# Altium footprint library Transistor.PcbLib: 22 footprints (part 1 of 2)
Each footprint in its own frame and in the unit in brackets; x right, y up, seen from the top. Pads: shape width x height; smd on the part's side, far side on the other; paste and mask are expansions set on the pad; w line width, h text height; cw(c..) or ccw(c..) is an arc to the next point about the centre after c.
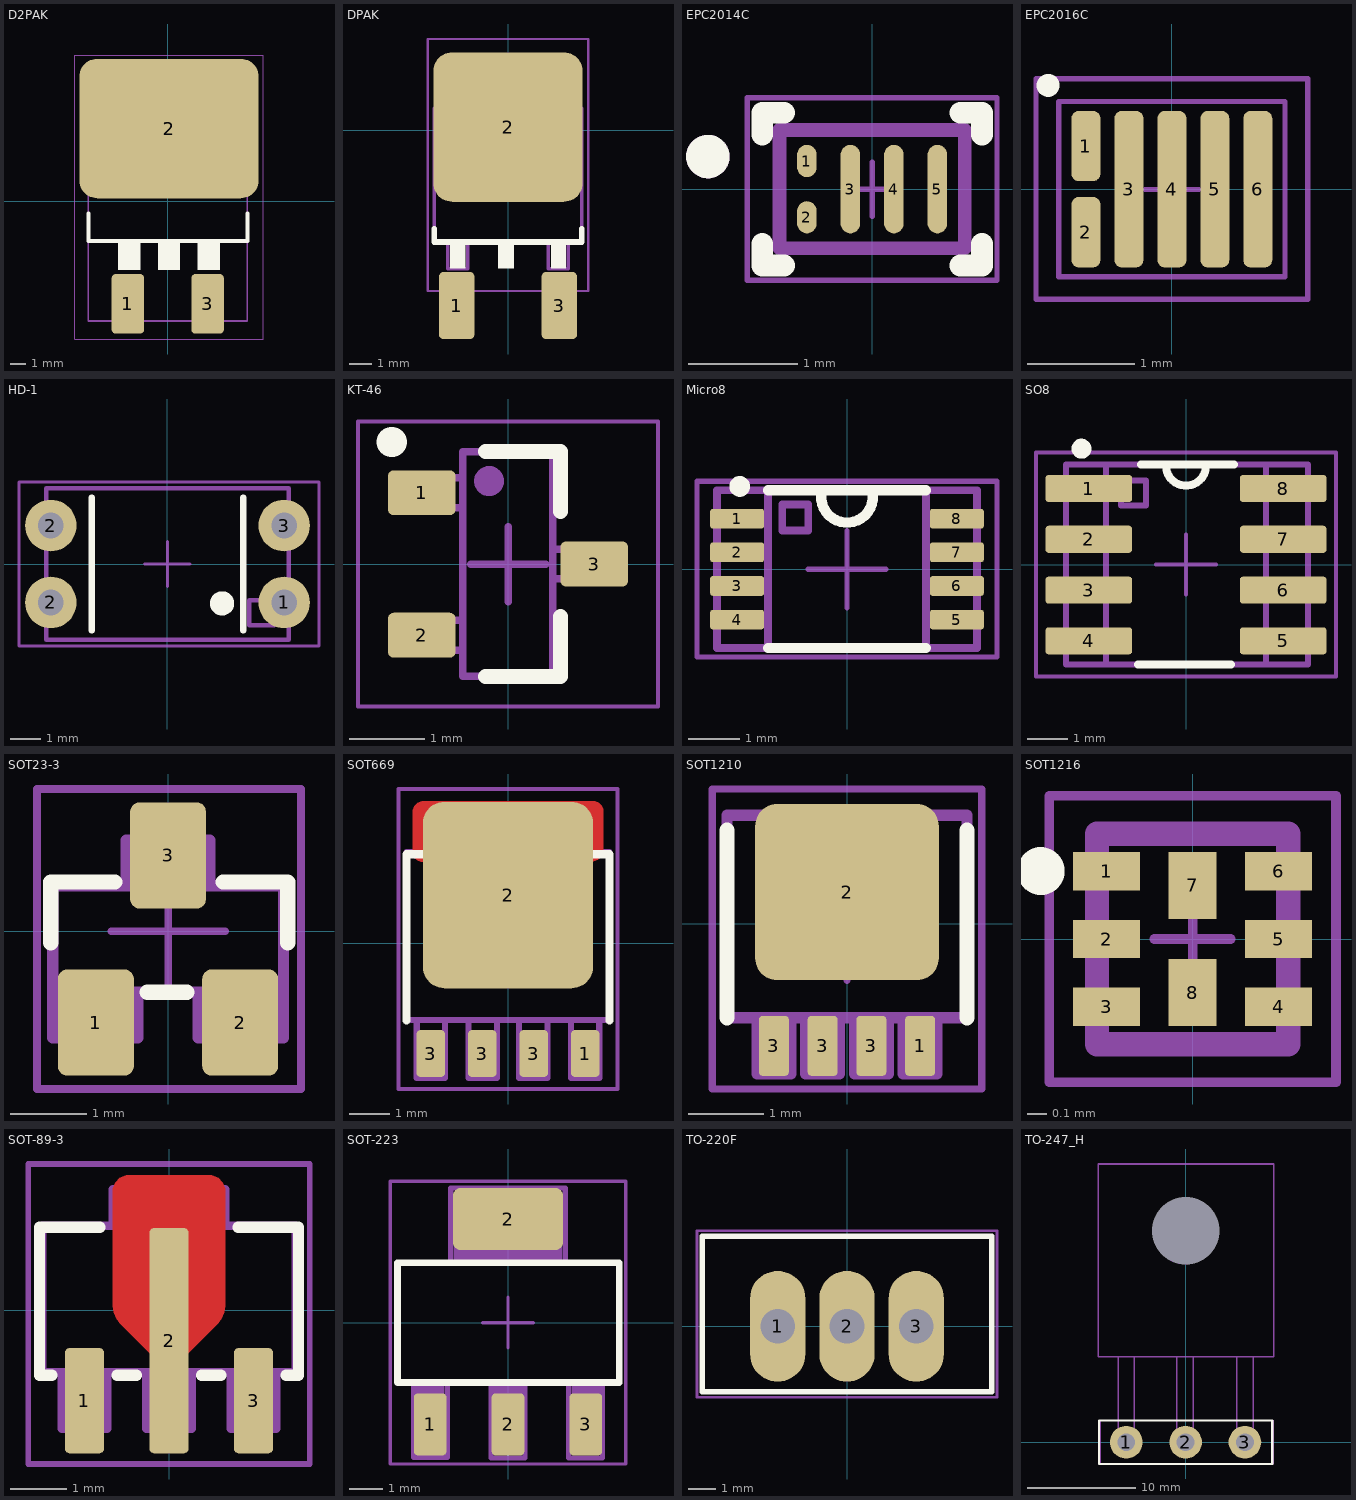
[diagram p0: the footprints below, top view; thin cyan lines are the x and y axes]

## D2PAK [mm]
pads (3):
  rrect25% 2.08x3.81 smd: 1(-2.54,-6.542) 3(2.54,-6.542)
  rrect25% 11.43x8.89 smd: 2(0.08,4.638)
Top Overlay:
  rectangle: -3.171,-4.382 -1.749,-2.541
  rectangle: 1.909,-4.382 3.331,-2.541
  rectangle: -0.631,-4.382 0.791,-2.541
  lines w0.254: -5.051,-0.763 -5.051,-2.541 5.08,-2.541 5.08,-0.763
Mechanical 13:
  lines w0.1: -5.08,-7.632 5.08,-7.632 5.08,7.632 -5.08,7.632 -5.08,-7.632
Mechanical 15:
  lines w0.05: -0.67,3.618 0.83,3.618 ; 0.08,2.868 0.08,4.368 ; -5.92,-8.782 6.08,-8.782 6.08,9.318 -5.92,9.318 -5.92,-8.782
3D body "User Library-DPAK.step": height 5.03, standoff 0.02, extent -5.08,-7.632 5.08,7.632

## DPAK [mm]
pads (3):
  rrect25% 1.6x3 smd: 1(-2.3,-7.85) 3(2.3,-7.85)
  rrect25% 6.7x6.7 smd: 2(0,0.152)
Top Overlay:
  rectangle: -0.439,-6.2 0.261,-5
  rectangle: 1.921,-6.2 2.6,-5
  rectangle: -2.6,-6.2 -1.9,-5
  lines w0.254: -3.302,-4.405 -3.302,-5 3.302,-5 3.302,-4.405
Mechanical 7:
  lines w0.15: -2.7,1 -2.7,1.5 -1.9,2.3 1.9,2.3 2.7,1.5 2.7,1 -3.3,1 ; -3.3,1 -3.3,1 ; 3.3,1 3.3,1
  lines w0.152: -3.302,-3.505 -3.302,1 ; 3.302,-3.505 3.302,1 ; -3.302,1 -3.302,-5 3.302,-5 3.302,1 ; -3.302,1 3.302,1 ; -2.692,-6.2 -1.803,-6.2 ; -2.692,-6.2 -2.692,-5 ; -2.692,-6.2 -2.692,-5 ; -2.692,-5 -1.803,-5 ; -1.803,-6.2 -1.803,-5 ; -1.803,-6.2 -1.803,-5 ; 1.803,-6.2 2.692,-6.2 ; 1.803,-6.2 1.801,-5 1.803,-6.2 ; 2.692,-6.2 2.692,-5 2.692,-6.2
Mechanical 9:
  text ".Designator" at -4.4,5 h3
Mechanical 10:
  text ".Comment" at -3.2,-8.8 h2
Mechanical 15:
  lines w0.1: -0.75,0 0.75,0 ; 0,-0.75 0,0.75 ; -3.6,-7.2 -3.6,4.1 3.6,4.1 3.6,-7.2 -3.6,-7.2
3D body "User Library-D-PAK.step": height 2.3, standoff 0, extent -3.246,-7.55 3.247,1.95

## EPC2014C [mm]
pads (5):
  oval 0.18x0.296 smd paste-1 mask+0: 1(-0.6,0.259) 2(-0.6,-0.259)
  oval 0.18x0.814 smd paste-1 mask+0: 3(-0.2,0) 4(0.2,0) 5(0.6,0)
Top Overlay:
  circle w0.2: c-1.51,0.3 r0.1
  lines w0.2: -1.01,-0.502 -1.01,-0.702 -0.81,-0.702 ; -1.01,0.502 -1.01,0.702 -0.81,0.702 ; 0.81,-0.702 1.01,-0.702 1.01,-0.502 ; 0.81,0.702 1.01,0.702 1.01,0.502
Top Paste:
  drawing of 5 lines, arcs and shapes, not listed
Top Solder:
  drawing of 5 lines, arcs and shapes, not listed
Mechanical 9:
  text ".Designator" at -5.05,1.7 h3.5
Mechanical 10:
  text ".Comment" at -2.775,-2.15 h2
Mechanical 13:
  circle w0.2: c-1.51,0.3 r0.1
  lines w0.127: -0.851,-0.543 -0.851,0.543 0.851,0.543 0.851,-0.543 -0.851,-0.543
Mechanical 15:
  lines w0.05: -0.25,0 0.25,0 ; 0,-0.25 0,0.25 ; -1.148,-0.838 -1.148,0.842 1.148,0.842 1.148,-0.838 -1.148,-0.838
3D body "EPC2014C--3DModel-STEP-56544.STEP": height 0.81, standoff 0, extent -0.858,-0.55 0.844,0.537

## EPC2016C [mm]
pads (12):
  rrect50% 0.27x0.655 smd paste-0.048 mask-0.275: 1(-0.8,0.404) 2(-0.8,-0.398)
  rrect50% 0.27x1.457 smd paste-0.048 mask-0.275: 3(-0.4,0.003) 4(0,0.002) 5(0.4,0.002) 6(0.8,0.002)
  oval 0.15x0.56 on Top Solder: ""(-0.8,-0.398) ""(-0.8,0.404)
  oval 0.15x1.362 on Top Solder: ""(-0.4,0.003) ""(0,0.003) ""(0.4,0.003) ""(0.8,0.003)
Top Overlay:
  circle w0.2: c-1.153,0.969 r0.006
Mechanical 9:
  text ".Designator" at -5.2,1.675 h3.5
Mechanical 10:
  text ".Comment" at -2.875,-2.05 h2
Mechanical 13:
  lines w0.05: -1.053,-0.813 1.053,-0.813 1.053,0.819 -1.053,0.819 -1.053,-0.813
Mechanical 15:
  lines w0.05: -0.25,0 0.25,0 ; 0,-0.25 0,0.25 ; -1.265,-1.022 1.264,-1.022 1.264,1.03 -1.265,1.03 -1.265,-1.022
3D body: height 0.81, standoff 0.13, extent -1.053,-0.813 1.05,0.819
3D body: height 0.2, standoff 0, extent -0.096,-0.687 0.098,-0.49
3D body: height 0.2, standoff 0, extent -0.097,0.496 0.097,0.693
3D body: height 0.2, standoff 0, extent -0.099,-0.588 0.1,0.594
3D body: height 0.2, standoff 0, extent -0.896,0.115 -0.702,0.312
3D body: height 0.2, standoff 0, extent -0.897,0.495 -0.703,0.692
3D body: height 0.2, standoff 0, extent -0.899,0.213 -0.7,0.593
3D body: height 0.82, standoff 0.81, extent -0.998,0.453 -0.7,0.753
3D body: height 0.2, standoff 0, extent -0.899,-0.589 -0.7,-0.209
3D body: height 0.2, standoff 0, extent -0.897,-0.307 -0.703,-0.11
3D body: height 0.2, standoff 0, extent -0.896,-0.687 -0.702,-0.49
3D body: height 0.2, standoff 0, extent -0.499,-0.587 -0.3,0.595
3D body: height 0.2, standoff 0, extent -0.497,0.497 -0.303,0.694
3D body: height 0.2, standoff 0, extent -0.496,-0.686 -0.302,-0.489
3D body: height 0.2, standoff 0, extent 0.301,-0.588 0.5,0.594
3D body: height 0.2, standoff 0, extent 0.303,0.496 0.497,0.693
3D body: height 0.2, standoff 0, extent 0.304,-0.687 0.498,-0.49
3D body: height 0.2, standoff 0, extent 0.701,-0.587 0.9,0.595
3D body: height 0.2, standoff 0, extent 0.703,0.497 0.897,0.694
3D body: height 0.2, standoff 0, extent 0.704,-0.686 0.898,-0.489

## HD-1 [mm]
pads (4):
  round 1.7 hole 0.85: 1(3.85,-1.27) 2(-3.85,-1.27) 2(-3.85,1.27) 3(3.85,1.27)
Top Overlay:
  circle w0.4: c1.8,-1.3 r0.2
  lines w0.2: -2.5,-2.2 -2.5,2.2 ; 2.5,-2.2 2.5,2.2
Mechanical 7:
  lines w0.15: -4,-2.5 4,-2.5 4,2.5 -4,2.5 -4,-2.5 ; 2.7,-2.025 2.7,-1.2 3.525,-1.2 3.525,-2.025 2.7,-2.025
Mechanical 9:
  text ".Designator" at -4.9,3.6 h3.5
Mechanical 10:
  text ".Comment" at -2.8,-4.2 h2
Mechanical 15:
  lines w0.1: -0.75,0 0.75,0 ; 0,-0.75 0,0.75 ; -4.9,-2.7 -4.9,2.7 5,2.7 5,-2.7 -4.9,-2.7
3D body "HD-1.STEP": height 6.7, standoff -1.91, extent -4.015,-2.5 4.015,2.5

## KT-46 [mm] "SOT23, 3-Leads, Body 2,90x2,30mm, Pitch 0,95mm, IPC Medium Density"
height 1.1
pads (3):
  rrect25% 0.9x0.6 smd paste-0.025 mask+0.1: 1(-1.15,0.95) 2(-1.15,-0.95) 3(1.15,0)
Top Overlay:
  lines w0.2: -0.3,-1.5 0.7,-1.5 0.7,-0.7 ; -0.3,1.5 0.7,1.5 0.7,0.7
  lines w0.4: -1.555,1.624 -1.55,1.625
Mechanical 6:
  text ".Comment" at -1.474,-2.189 h1.2
Mechanical 9:
  text ".Designator" at -2.306,1.806 h1.5
Mechanical 11:
  circle w0.2: c-0.252,1.106 r0.1
  lines w0.1: -0.6,-1.15 -1.225,-1.15 -1.225,-0.75 -0.6,-0.75 ; -0.6,0.75 -1.225,0.75 -1.225,1.15 -0.6,1.15 ; 0.6,-0.2 1.225,-0.2 1.225,0.2 0.6,0.2 ; -0.6,-1.5 -0.6,1.5 0.6,1.5 0.6,-1.5 -0.6,-1.5
Mechanical 15:
  lines w0.05: -2,-1.9 -2,1.9 2,1.9 2,-1.9 -2,-1.9
  lines w0.1: -0.5,0 0.5,0 ; 0,-0.5 0,0.5
3D body "CircuitWorks-SOT-23.step": height 1.05, standoff -0.05, extent -1.25,-1.5 1.25,1.5

## Micro8 [mm]
height 1.11
pads (8):
  rrect25% 1.04x0.38 smd: 1(-2.125,0.975) 2(-2.125,0.325) 3(-2.125,-0.325) 4(-2.125,-0.975) 5(2.125,-0.975) 6(2.125,-0.325) 7(2.125,0.325) 8(2.125,0.975)
Top Overlay:
  circle w0.2: c-2.075,1.6 r0.1
  lines w0.2: -1.525,-1.525 1.525,-1.525 ; -1.525,1.525 1.525,1.525 ; -0.499,1.425 ccw(c0,1.4) 0.499,1.425
Mechanical 7:
  lines w0.15: -1.525,-1.525 -1.525,1.525 ; 1.525,-1.525 1.525,1.525 ; -2.515,-1.525 -2.515,1.525 2.515,1.525 2.515,-1.525 -2.515,-1.525 ; -1.25,0.75 -1.25,1.25 -0.75,1.25 -0.75,0.75 -1.25,0.75
Mechanical 9:
  text ".Designator" at -4.65,2.725 h3.5
Mechanical 10:
  text ".Comment" at -2.8,-3.2 h2
Mechanical 15:
  lines w0.1: -0.75,0 0.75,0 ; 0,-0.75 0,0.75 ; -2.9,-1.7 2.9,-1.7 2.9,1.7 -2.9,1.7 -2.9,-1.7
3D body "User Library-msop-8.step": height 1.15, standoff 0, extent -2.45,-1.5 2.45,1.5

## SO8 [mm]
height 1.75
pads (8):
  rrect25% 2.17x0.68 smd: 1(-2.43,1.905) 2(-2.43,0.635) 3(-2.43,-0.635) 4(-2.43,-1.905) 5(2.43,-1.905) 6(2.43,-0.635) 7(2.43,0.635) 8(2.43,1.905)
Top Overlay:
  circle w0.25: c-2.615,2.9 r0.125
  lines w0.2: -1.2,-2.5 1.125,-2.5 ; -1.125,2.5 1.2,2.5 ; -0.5,2.475 ccw(c0,2.475) 0.5,2.475
Mechanical 7:
  lines w0.15: -2,-2.5 -2,2.5 ; 2,-2.5 2,2.5 ; -3,-2.5 3.05,-2.5 3.05,2.5 -3,2.5 -3,-2.5 ; -1.625,1.475 -1.625,2.1 -1,2.1 -1,1.475 -1.625,1.475
Mechanical 9:
  text ".Designator" at -4,3.25 h3
Mechanical 10:
  text ".Comment" at -2.75,-4 h2
Mechanical 15:
  lines w0.1: -0.75,0 0.75,0 ; 0,-0.75 0,0.75 ; -3.75,-2.8 -3.75,2.8 3.75,2.8 3.75,-2.8 -3.75,-2.8
3D body "SOIC-8.STEP": height 1.7, standoff 0, extent -3,-2.54 3,2.54

## SOT23-3 [mm]
height 1.12
pads (3):
  rrect25% 1x1.4 smd: 1(-0.95,-1.2) 2(0.95,-1.2) 3(0,1)
Top Overlay:
  lines w0.2: -1.545,-0.15 -1.545,0.65 -0.7,0.65 ; -0.275,-0.8 0.25,-0.8 ; 0.725,0.65 1.575,0.65 1.575,-0.15
Mechanical 7:
  lines w0.15: -1.52,-0.8 1.52,-0.8 ; -0.55,0.6 -0.55,1.2 0.55,1.2 0.55,0.6 ; -0.4,-0.8 -0.4,-1.4 -1.52,-1.4 -1.52,0.6 1.52,0.6 1.52,-1.4 0.4,-1.4 0.4,-0.8
Mechanical 9:
  text ".Designator" at -5.1,2.6 h3
Mechanical 10:
  text ".Comment" at -2.9,-3.2 h2
Mechanical 15:
  lines w0.1: -0.75,0 0.75,0 ; 0,-0.75 0,0.75 ; -1.725,-2.075 1.75,-2.075 1.75,1.875 -1.725,1.875 -1.725,-2.075
3D body "SOT-23-3.STEP": height 1.1, standoff 0, extent -1.5,-1.25 1.5,1.05

## SOT669 [mm]
height 1.11
pads (5):
  rrect25% 0.7x1.15 smd: 1(1.905,-2.725) 3(-1.905,-2.725) 3(-0.635,-2.725) 3(0.635,-2.725)
  rrect25% 4.2x4.6 smd: 2(0,1.185)
Top Layer:
  region: -2.065,3.5 2.1,3.5 2.15,3.5 2.242,3.462 2.312,3.392 2.35,3.3 2.35,3.25 2.35,2.325 2.35,2.26 2.301,2.141 2.209,2.049 2.09,2 2.025,2 -2.1,2 -2.15,2 -2.242,2.038 -2.312,2.108 -2.35,2.2 -2.35,2.25 -2.35,3.215 -2.35,3.272 -2.307,3.376 -2.226,3.457 -2.122,3.5
Top Overlay:
  lines w0.2: -2.5,-1.91 -2.5,2.19 -1.93,2.19 ; 1.93,2.19 2.5,2.19 2.5,-1.91
Top Paste:
  region: 0.232,3.065 1.345,3.065 1.345,1.493 0.232,1.493
  region: 0.228,0.865 1.345,0.865 1.345,-1.107 0.228,-1.107
  region: -0.195,1.497 -1.605,1.497 -1.605,3.065 -0.195,3.065
  region: -0.195,-1.118 -1.591,-1.118 -1.591,0.865 -0.195,0.865
Mechanical 7:
  lines w0.15: -2.25,-1.9 -2.25,-3.325 -1.55,-3.325 -1.55,-1.9 ; -1.725,2.25 -1.725,2.95 1.725,2.95 1.725,2.25 ; -0.975,-1.9 -0.975,-3.325 -0.275,-3.325 -0.275,-1.9 ; 0.275,-1.9 0.275,-3.325 0.975,-3.325 0.975,-1.9 ; 1.55,-1.9 1.55,-3.325 2.25,-3.325 2.25,-1.9 ; -2.5,-1.9 -2.5,2.25 2.5,2.25 2.5,-1.9 -2.5,-1.9
Mechanical 9:
  text ".Designator" at -5.1,4.7 h3
Mechanical 10:
  text ".Comment" at -3.3,-5.3 h2
Mechanical 15:
  lines w0.1: -0.75,0 0.75,0 ; 0,-0.75 0,0.75 ; -2.7,-3.6 -2.7,3.8 2.7,3.8 2.7,-3.6 -2.7,-3.6
3D body "User Library-SOT669.step": height 1.2, standoff 0, extent -2.5,-3.417 2.5,3.35

## SOT1210 [mm]
height 1.11
pads (5):
  rrect25% 0.4x0.8 smd: 1(0.975,-1.625) 3(-0.975,-1.625) 3(-0.325,-1.625) 3(0.325,-1.625)
  rrect25% 2.45x2.35 smd: 2(0,0.425)
Top Overlay:
  lines w0.203: -1.6,-1.25 -1.6,1.25 ; 1.6,-1.25 1.6,1.25
Mechanical 7:
  lines w0.15: -1.2,-1.25 -1.2,-2 -0.75,-2 -0.75,-1.25 ; -0.55,-1.25 -0.55,-2 -0.1,-2 -0.1,-1.25 ; 0.1,-1.25 0.1,-2 0.55,-2 0.55,-1.25 ; 0.75,-1.25 0.75,-2 1.2,-2 1.2,-1.25 ; -1.6,-1.25 1.6,-1.25 1.6,1.45 -1.6,1.45 -1.6,-1.25
Mechanical 9:
  text ".Designator" at -4.75,2.5 h3
Mechanical 10:
  text ".Comment" at -3.25,-3.75 h2
Mechanical 15:
  lines w0.1: -0.75,0 0.75,0 ; 0,-0.75 0,0.75 ; -1.8,-2.2 1.8,-2.2 1.8,1.8 -1.8,1.8 -1.8,-2.2
3D body "User Library-PSMN3R0-30MLC.step": height 0.92, standoff -0.03, extent -1.65,-1.86 1.65,1.461

## SOT1216 [mm]
height 1.11
pads (8):
  rect 0.35x0.2 smd paste-1 mask+0.025: 1(-0.45,0.355) 2(-0.45,0) 3(-0.45,-0.355) 4(0.45,-0.355) 5(0.45,0) 6(0.45,0.355)
  rect 0.25x0.35 smd paste-1 mask+0.025: 7(0,0.28) 8(0,-0.28)
Top Overlay:
  circle w0.2: c-0.794,0.355 r0.025
Top Paste:
  region: 0.55,0.25 0.3,0.25 0.3,0.45 0.55,0.45
  region: 0.55,-0.1 0.301,-0.1 0.301,0.1 0.55,0.1
  region: 0.55,-0.45 0.3,-0.45 0.3,-0.25 0.55,-0.25
  region: -0.3,-0.45 -0.55,-0.45 -0.55,-0.25 -0.3,-0.25
  region: -0.3,-0.1 -0.55,-0.1 -0.55,0.1 -0.3,0.1
  region: -0.3,0.25 -0.551,0.25 -0.551,0.45 -0.3,0.45
  region: 0.079,0.165 -0.079,0.165 -0.079,0.386 0.079,0.386
  region: 0.079,-0.386 -0.079,-0.386 -0.079,-0.165 0.079,-0.165
Mechanical 9:
  text ".Designator" at -4.525,1.575 h3
Mechanical 10:
  text ".Comment" at -2.7,-2.125 h2
Mechanical 13:
  circle w0.05: c-0.35,0.35 r0.025
  lines w0.127: -0.5,-0.55 0.5,-0.55 0.5,0.55 -0.5,0.55 -0.5,-0.55
Mechanical 15:
  lines w0.05: -0.2,0 0.2,0 ; 0,-0.2 0,0.2 ; -0.75,-0.75 0.75,-0.75 0.75,0.75 -0.75,0.75 -0.75,-0.75
3D body "PMCXB900UELZ.STEP": height 0.4, standoff 0, extent -0.502,-0.549 0.498,0.551

## SOT-89-3 [mm]
pads (3):
  rrect25% 0.7x1.87 smd: 1(-1.5,-1.6) 3(1.5,-1.6)
  rrect25% 0.7x4 smd: 2(0,-0.535)
Top Layer:
  region: -0.3,-0.8 -0.829,-0.271 -0.87,-0.23 -0.934,-0.135 -0.978,-0.029 -1,0.084 -1,0.141 -1,2.1 -1,2.16 -0.954,2.27 -0.87,2.354 -0.76,2.4 -0.7,2.4 0.7,2.4 0.76,2.4 0.87,2.354 0.954,2.27 1,2.16 1,2.1 1,0.141 1,0.084 0.978,-0.029 0.934,-0.135 0.87,-0.23 0.829,-0.271 0.3,-0.8
Top Overlay:
  lines w0.2: -2.075,-1.15 -2.3,-1.15 -2.3,1.475 -1.225,1.475 ; -0.925,-1.15 -0.575,-1.15 ; 0.575,-1.15 0.925,-1.15 ; 1.225,1.475 2.3,1.475 2.3,-1.15 2.075,-1.15
Mechanical 9:
  text ".Designator" at -5.1,3.6 h3.5
Mechanical 10:
  text ".Comment" at -2.9,-4.5 h2
Mechanical 11:
  lines w0.15: -1.9,-1.1 -1.9,-2.1 -1.1,-2.1 -1.1,-1.1 ; -1,1.5 -1,2.15 1,2.15 1,1.5 ; -0.4,-1.1 -0.4,-2.1 0.4,-2.1 0.4,-1.1 ; 1.1,-1.1 1.1,-2.1 1.9,-2.1 1.9,-1.1 ; -2.25,-1.1 -2.25,1.5 2.25,1.5 2.25,-1.1 -2.25,-1.1
Mechanical 15:
  lines w0.1: -2.5,-2.725 -2.5,2.6 2.5,2.6 2.5,-2.725 -2.5,-2.725
3D body "User Library-SOT89-3.STEP": height 1.54, standoff 0, extent -2.25,-2.1 2.25,2.15

## SOT-223 [mm]
pads (4):
  rrect25% 0.97x1.85 smd: 1(-2.311,-3.024) 2(0,-3.024) 3(2.311,-3.024)
  rrect25% 3.27x1.85 smd: 2(0,3.074)
Top Overlay:
  lines w0.203: -3.277,-1.778 -3.277,1.778 3.302,1.778 3.302,-1.778 -3.277,-1.778
Mechanical 7:
  lines w0.15: -2.8,-1.778 -2.8,-4 -1.8,-4 -1.8,-1.778 ; -1.7,1.778 -1.7,4 1.7,4 1.7,1.778 ; -0.5,-1.8 -0.5,-4.022 0.5,-4.022 0.5,-1.8 ; 1.8,-1.8 1.8,-4.022 2.8,-4.022 2.8,-1.8 ; -3.277,-1.778 -3.277,1.778 3.302,1.778 3.302,-1.778 -3.277,-1.778
Mechanical 9:
  text ".Designator" at -5.1,5 h3
Mechanical 10:
  text ".Comment" at -3,-5.8 h2
Mechanical 15:
  lines w0.1: -0.75,0 0.75,0 ; 0,-0.75 0,0.75 ; -3.5,-4.2 -3.5,4.2 3.5,4.2 3.5,-4.2 -3.5,-4.2
Mechanical 16:
  rectangle: 1.88,-3.658 2.743,-1.803
  rectangle: -2.743,-3.658 -1.88,-1.803
  rectangle: -0.432,-3.658 0.432,-1.803
  rectangle: -1.6,1.803 1.6,3.658
  rectangle: 1.88,-3.658 2.743,-1.803
  rectangle: -2.743,-3.658 -1.88,-1.803
  rectangle: -0.432,-3.658 0.432,-1.803
  rectangle: -1.6,1.803 1.6,3.658
3D body "User Library-SOT-223-4.STEP": height 1.65, standoff 0, extent -3.25,-3.543 3.25,3.543

## TO-220F [mil]
pads (3):
  oval 80x160 hole 50: 1(-100,0) 2(0,0) 3(100,0)
Top Overlay:
  lines w7.87: -208.66,-94.49 208.66,-94.49 208.66,129.92 -208.66,129.92 -208.66,-94.49
Mechanical 9:
  text ".Designator" at -224.41,212.6 h137.8
Mechanical 10:
  text ".Comment" at -110.24,200.79 h78.74
Mechanical 15:
  lines w3.94: -216.54,-102.36 216.54,-102.36 216.54,137.8 -216.54,137.8 -216.54,-102.36
3D body "User Library-FJPF13009 Transistors NPN TO-220F.step": height 821.65, standoff -334.65, extent -199.62,-63.31 199.63,122.52

## TO-247_H [mm]
pads (4):
  round 3 hole 1.64: 1(-5.45,0) 2(0,0) 3(5.45,0)
  round 0 hole 6.2 unplated: ""(0,19.401)
Top Overlay:
  lines w0.2: -7.95,-2 7.95,-2 7.95,2 -7.95,2 -7.95,-2
Keep-Out Layer:
  circle w0.1: c0,19.401 r3
Mechanical 7:
  lines w0.15: -6.2,7.841 -6.2,0 -4.7,0 -4.7,7.841 ; -0.8,7.841 -0.8,0 0.7,0 0.7,7.841 ; 4.7,7.841 4.7,0 6.2,0 6.2,7.841 ; -8.025,7.841 -8.025,19.619 -8.025,25.55 8.1,25.55 8.1,7.841 -8.025,7.841
  text "1" at -5.7,8.6 h4
Mechanical 9:
  text ".Designator" at -6.25,-4.5 h3
Mechanical 10:
  text ".Comment" at -4,-6.75 h2
Mechanical 15:
  lines w0.1: -0.75,0 0.75,0 ; 0,-0.75 0,0.75 ; -7.8,-2 -7.8,2 8.1,2 8.1,-2 -7.8,-2
3D body "User Library-TO-247 CASE 340L-02 Horizontal Bottom.STEP": height 5.5, standoff -12.8, extent -8,-0.35 8,25.55